# EAGLE library part BRD_CONN_SMD_2MM_12 (library alvie)
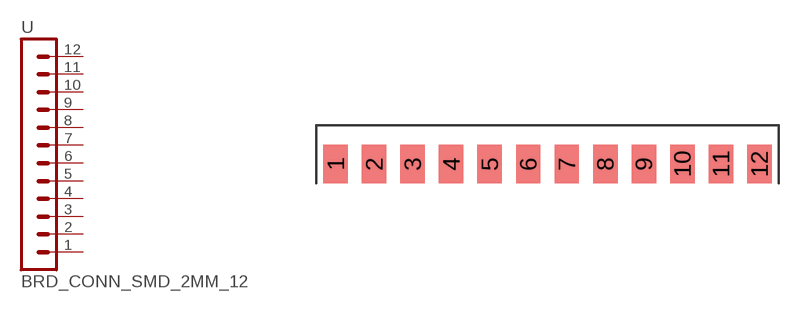
[diagram p53: symbol with the pads of B2B_SMD_12; footprint B2B_SMD_12]

Designator prefix -

## BRD_CONN_SMD_2MM_12  [B2B_SMD_12]
1  1  pas
2  2  pas
3  3  pas
4  4  pas
5  5  pas
6  6  pas
7  7  pas
8  8  pas
9  9  pas
10  10  pas
11  11  pas
12  12  pas

## Footprint B2B_SMD_12 (pad centres in mm)
smd 1.27 x 2: 1 -11,0; 2 -9,0; 3 -7,0; 4 -5,0; 5 -3,0; 6 -1,0; 7 1,0; 8 3,0; 9 5,0; 10 7,0; 11 9,0; 12 11,0